# EAGLE library part CAT24C256 (library ORBiT-IC-ON-Semi)
ON Semiconductor CAT24C256 256-Kb Serial I2C EEPROM The CAT24C256 is a EEPROM Serial 256-Kb I2C, internally organized as 512 pages of 64 bytes each, for a total of 32,768 bytes of 8 bits each. It features a 64-byte page write buffer and supports the Standard (100 kHz), Fast (400 kHz) and Fast-Plus (1 MHz) I2C protocol. Write operations can be inhibited by taking the WP pin High (this protects the entire memory). External address pins make it possible to address up to eight CAT24C256 devices on the same bus. On-Chip ECC (Error Correction Code) makes the device suitable for high reliability applications. Features: Supports Standard, Fast and Fast-Plus I2C Protocol 1.8 V to 5.5 V Supply Voltage Range 64-Byte Page Write Buffer Hardware Write Protection for Entire Memory Schmitt Triggers and Noise Suppression Filters on I2C Bus Inputs (SCL and SDA) Low Power CMOS Technology 1,000,000 program/erase cycles 100 Year Data Retention Industrial temperature range Industrial and Extended Temperature Range PDIP, SOIC, TSSOP, MSOP 8-Lead and TDFN, UDFN 8-Pad Packages This Device is Pb-Free, Halogen Free/BFR Free and RoHS Compliant Technical data: CAT24C256: EEPROM Serial 256-Kb I2C <http://www.onsemi.com/PowerSolutions/product.do?id=CAT24C256>
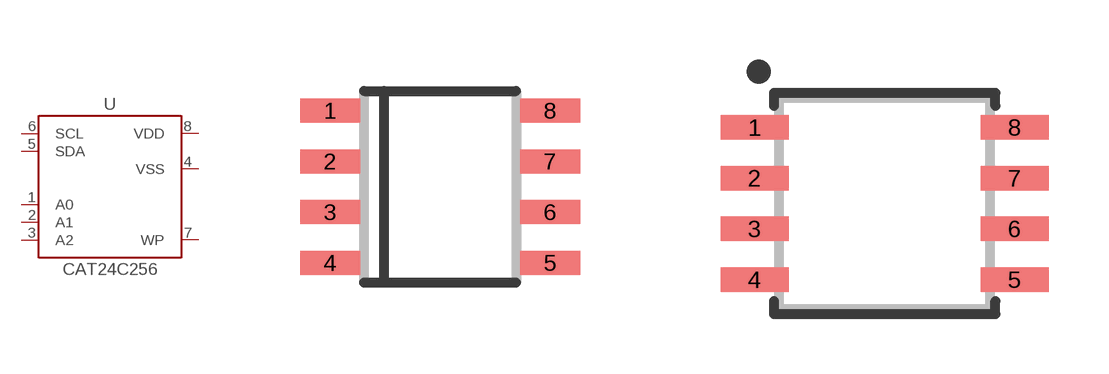
[diagram p0: symbol with the pads of SOIC8-150; footprints SOIC8-150, SOIC8-208]

Designator prefix U

## CAT24C256WI-GT3 (MF: ON Semiconductor; MPN: CAT24C256WI-GT3; PN_DIGIKEY: CAT24C256WI-GT3OSCT-ND; PN_MOUSER: 698-CAT24C256WI-GT3)  [SOIC8-150]
1  A0
2  A1
3  A2
4  VSS
5  SDA
6  SCL
7  WP
8  VDD

## CAT24C256XI-T2 (MF: ON Semiconductor; MPN: CAT24C256XI-T2; PN_DIGIKEY: CAT24C256XI-T2OSCT-ND; PN_MOUSER: 698-CAT24C256XI-T2)  [SOIC8-208]
Pads as for SOIC8-150

## CAT24C256YI-GT3 (MF: ON Semiconductor; MPN: CAT24C256YI-GT3; PN_DIGIKEY: CAT24C256YI-GT3OSCT-ND; PN_MOUSER: 698-CAT24C256YI-GT3)  [TSSOP8]
Pads as for SOIC8-150

## CAT24C256HU4IGT3 (MF: ON Semiconductor; MPN: CAT24C256HU4IGT3; PN_DIGIKEY: CAT24C256HU4IGT3OSCT-ND; PN_MOUSER: 863-CAT24C256HU4IGT3)  [UDFN8-2X3]
Pads as for SOIC8-150

## Footprint SOIC8-150 (pad centres in mm)
SOIC-8, 150 mils CASE 751BD-01
smd 1.5 x 0.6: 1 -2.75,1.905; 2 -2.75,0.635; 3 -2.75,-0.635; 4 -2.75,-1.905; 5 2.75,-1.905; 6 2.75,-0.635; 7 2.75,0.635; 8 2.75,1.905

## Footprint SOIC8-208 (pad centres in mm)
SOIC-8, 208 mils CASE 751BE-01
smd 1.702 x 0.61: 1 -3.251,1.905; 2 -3.251,0.635; 3 -3.251,-0.635; 4 -3.251,-1.905; 5 3.251,-1.905; 6 3.251,-0.635; 7 3.251,0.635; 8 3.251,1.905

## Footprint TSSOP8 (pad centres in mm)
TSSOP-8 CASE 948AL-01
smd 1.2 x 0.35: 1 -2.925,0.975; 2 -2.925,0.325; 3 -2.925,-0.325; 4 -2.925,-0.975; 5 2.925,-0.975; 6 2.925,-0.325; 7 2.925,0.325; 8 2.925,0.975

## Footprint UDFN8-2X3 (pad centres in mm)
UDFN-8, 2x3mm CASE 517AZ
smd 0.7 x 0.3: 1 -1.325,0.75; 2 -1.325,0.25; 3 -1.325,-0.25; 4 -1.325,-0.75; 5 1.325,-0.75; 6 1.325,-0.25; 7 1.325,0.25; 8 1.325,0.75
smd 1.5 x 1.3: PAD 0,0